# EAGLE library part USB3.1_16P (library Connector)
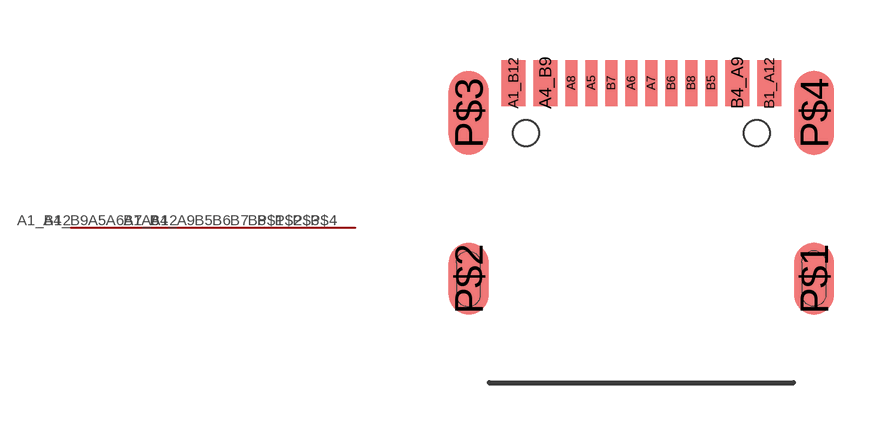
[diagram p6: symbol with the pads of USB3.1_16PIN; footprint USB3.1_16PIN]

Designator prefix -

## USB3.1_16P  [USB3.1_16PIN]
A1_B12  P$1
A4_B9  P$2
A5  P$3
A6  P$4
A7  P$5
A8  P$6
B1_A12  P$7
B4_A9  P$8
B5  P$9
B6  P$10
B7  P$11
B8  P$12
P$1  P$13
P$2  P$14
P$3  P$15
P$4  P$16

## Footprint USB3.1_16PIN (pad centres in mm)
smd 0.6 x 1.15: A1_B12 -3.2,0.75; A4_B9 -2.4,0.75; B1_A12 3.2,0.75; B4_A9 2.4,0.75
smd 0.3 x 1.15: A5 -1.25,0.75; A6 -0.25,0.75; A7 0.25,0.75; A8 -1.75,0.75; B5 1.75,0.75; B6 0.75,0.75; B7 -0.75,0.75; B8 1.25,0.75
smd 1 x 1.8: P$1 4.32,-4.15; P$2 -4.32,-4.15
smd 1 x 2.1: P$3 -4.32,0; P$4 4.32,0
hole 0.65 at -2.89,-0.5
hole 0.65 at 2.89,-0.5